# Altium footprint library parts.PcbLib: 3 footprints
Each footprint in its own frame and in the unit in brackets; x right, y up, seen from the top. Pads: shape width x height; smd on the part's side, far side on the other; paste and mask are expansions set on the pad; w line width, h text height; cw(c..) or ccw(c..) is an arc to the next point about the centre after c.
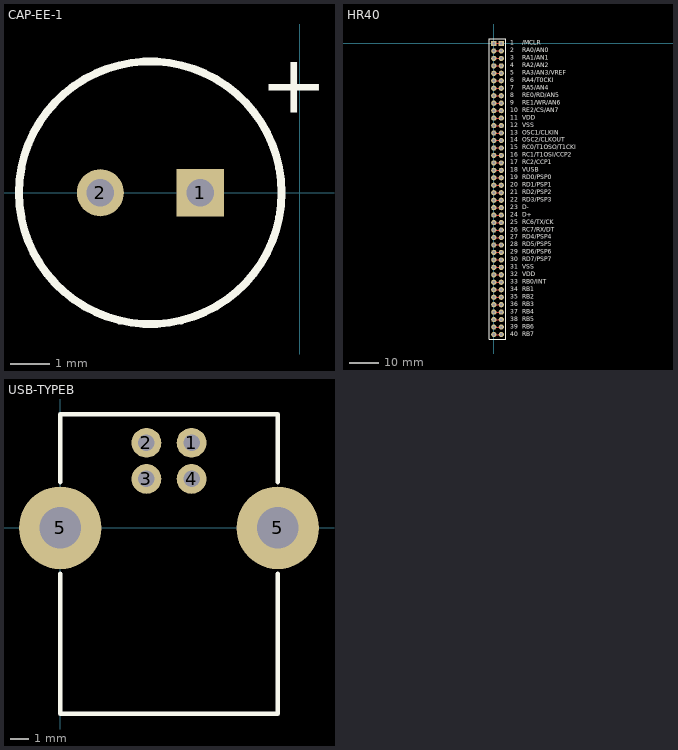
[diagram p0: the footprints below, top view; thin cyan lines are the x and y axes]

## CAP-EE-1 [mm]
pads (2):
  rect 1.2x1.2 hole 0.7: 1(-2.54,0)
  round 1.2 hole 0.7: 2(-5.08,0)
Top Overlay:
  circle w0.2: c-3.81,0 r3.341
  text "+" at -1.016,2.032 h1.5

## HR40 [mil]
pads (80):
  rect 70x70 hole 35: 1(0,0) 1(100,0)
  round 70 hole 35: 2(0,-100) 2(100,-100) 3(0,-200) 3(100,-200) 4(0,-300) 4(100,-300) 5(0,-400) 5(100,-400) 6(0,-500) 6(100,-500) 7(0,-600) 7(100,-600) 8(0,-700) 8(100,-700) 9(0,-800) 9(100,-800) 10(0,-900) 10(100,-900) 11(0,-1000) 11(100,-1000) 12(0,-1100) 12(100,-1100) 13(0,-1200) 13(100,-1200) 14(0,-1300) 14(100,-1300) 15(0,-1400) 15(100,-1400) 16(0,-1500) 16(100,-1500) 17(0,-1600) 17(100,-1600) 18(0,-1700) 18(100,-1700) 19(0,-1800) 19(100,-1800) 20(0,-1900) 20(100,-1900) 21(0,-2000) 21(100,-2000) 22(0,-2100) 22(100,-2100) 23(0,-2200) 23(100,-2200) 24(0,-2300) 24(100,-2300) 25(0,-2400) 25(100,-2400) 26(0,-2500) 26(100,-2500) 27(0,-2600) 27(100,-2600) 28(0,-2700) 28(100,-2700) 29(0,-2800) 29(100,-2800) 30(0,-2900) 30(100,-2900) 31(0,-3000) 31(100,-3000) 32(0,-3100) 32(100,-3100) 33(0,-3200) 33(100,-3200) 34(0,-3300) 34(100,-3300) 35(0,-3400) 35(100,-3400) 36(0,-3500) 36(100,-3500) 37(0,-3600) 37(100,-3600) 38(0,-3700) 38(100,-3700) 39(0,-3800) 39(100,-3800) 40(0,-3900) 40(100,-3900)
Top Layer:
  lines w10: -20,-1900 80,-1900 ; 0,-1400 100,-1400 ; 0,-1200 100,-1200 ; 0,-1000 100,-1000 ; 0,-900 100,-900 ; 0,-800 100,-800 ; 0,-700 100,-700 ; 0,-600 100,-600 ; 0,-500 100,-500 ; 0,-400 100,-400 ; 0,-300 100,-300 ; 0,-200 100,-200 ; 0,-100 100,-100 ; 0,0 100,0 ; 20,-1900 120,-1900 ; 20,-1200 120,-1200 ; 0,-3000 100,-3000 ; 0,-3000 100,-3000 ; 0,-3000 100,-3000 ; 0,-2900 100,-2900 ; 0,-2900 100,-2900 ; 0,-2900 100,-2900 ; 0,-2900 100,-2900 ; 0,-2800 100,-2800 ; 0,-2800 100,-2800 ; 0,-2800 100,-2800 ; 0,-2800 100,-2800 ; 0,-2700 100,-2700 ; 0,-2700 100,-2700 ; 0,-2700 100,-2700 ; 0,-2700 100,-2700 ; 0,-2600 100,-2600 ; 0,-2600 100,-2600 ; 0,-2600 100,-2600 ; 0,-2600 100,-2600 ; 0,-2500 100,-2500 ; 0,-2500 100,-2500 ; 0,-2500 100,-2500 ; 0,-2500 100,-2500 ; 0,-2500 100,-2500 ; 0,-2400 100,-2400 ; 0,-2400 100,-2400 ; 0,-2400 100,-2400 ; 0,-2300 100,-2300 ; 0,-2300 100,-2300 ; 0,-2300 100,-2300 ; 0,-2200 100,-2200 ; 0,-2200 100,-2200 ; 0,-2200 100,-2200 ; 0,-2200 100,-2200 ; 0,-2100 100,-2100 ; 0,-2100 100,-2100 ; 0,-2100 100,-2100 ; 0,-2100 100,-2100 ; 0,-2000 100,-2000 ; 0,-2000 100,-2000 ; 0,-2000 100,-2000 ; 0,-2000 100,-2000 ; 0,-1900 100,-1900 ; 0,-1900 100,-1900 ; 0,-1900 100,-1900 ; 0,-1800 100,-1800 ; 0,-1800 100,-1800 ; 0,-1800 100,-1800 ; 0,-1800 100,-1800 ; 0,-1700 100,-1700 ; 0,-1700 100,-1700 ; 0,-1700 100,-1700 ; 0,-1700 100,-1700 ; 0,-1700 100,-1700 ; 0,-1600 100,-1600 ; 0,-1600 100,-1600 ; 0,-1600 100,-1600 ; 0,-1600 100,-1600 ; 0,-1600 100,-1600 ; 0,-3900 100,-3900 0,-3900 ; 0,-3800 100,-3800 0,-3800 ; 0,-3700 100,-3700 0,-3700 ; 0,-3600 100,-3600 0,-3600 ; 0,-3500 100,-3500 0,-3500 ; 0,-3400 100,-3400 0,-3400 ; 0,-3300 100,-3300 0,-3300 ; 0,-3200 100,-3200 0,-3200 ; 0,-3100 100,-3100 0,-3100 ; 0,-1500 100,-1500 0,-1500 ; 0,-1300 100,-1300 0,-1300 ; 0,-1100 100,-1100 0,-1100
Top Overlay:
  lines w10: -60,-3960 160,-3960 160,60 140,60 -60,60 -60,-3960
  text "RC1/T1OSI/CCP2" at 380,-1520 h60
  text "/MCLR" at 380,-20 h60
  text "RA0/AN0" at 380,-120 h60
  text "RA1/AN1" at 380,-220 h60
  text "RA2/AN2" at 380,-320 h60
  text "RA3/AN3/VREF" at 380,-420 h60
  text "RA4/T0CKI" at 380,-520 h60
  text "RA5/AN4" at 380,-620 h60
  text "RE0/RD/AN5" at 380,-720 h60
  text "RE1/WR/AN6" at 380,-820 h60
  text "RE2/CS/AN7" at 380,-920 h60
  text "VDD" at 380,-1020 h60
  text "VSS" at 380,-1120 h60
  text "OSC1/CLKIN" at 380,-1220 h60
  text "OSC2/CLKOUT" at 380,-1320 h60
  text "RC0/T1OSO/T1CKI" at 380,-1420 h60
  text "RC2/CCP1" at 380,-1620 h60
  text "VUSB" at 380,-1720 h60
  text "RD0/PSP0" at 380,-1820 h60
  text "RD1/PSP1" at 380,-1920 h60
  text "RD2/PSP2" at 380,-2020 h60
  text "RD3/PSP3" at 380,-2120 h60
  text "D-" at 380,-2220 h60
  text "D+" at 380,-2320 h60
  text "RC6/TX/CK" at 380,-2420 h60
  text "RC7/RX/DT" at 380,-2520 h60
  text "RD4/PSP4" at 380,-2620 h60
  text "RD5/PSP5" at 380,-2720 h60
  text "RD6/PSP6" at 380,-2820 h60
  text "RD7/PSP7" at 380,-2920 h60
  text "VSS" at 380,-3020 h60
  text "VDD" at 380,-3120 h60
  text "RB0/INT" at 380,-3220 h60
  text "RB1" at 380,-3320 h60
  text "RB2" at 380,-3420 h60
  text "RB4" at 380,-3620 h60
  text "RB5" at 380,-3720 h60
  text "RB6" at 380,-3820 h60
  text "RB7" at 380,-3920 h60
  text "RB3" at 380,-3520 h60
  text "1" at 220,-20 h60
  text "2" at 220,-120 h60
  text "3" at 220,-220 h60
  text "4" at 220,-320 h60
  text "5" at 220,-420 h60
  text "6" at 220,-520 h60
  text "7" at 220,-620 h60
  text "8" at 220,-720 h60
  text "9" at 220,-820 h60
  text "10" at 220,-920 h60
  text "11" at 220,-1020 h60
  text "12" at 220,-1120 h60
  text "13" at 220,-1220 h60
  text "14" at 220,-1320 h60
  text "16" at 220,-1520 h60
  text "15" at 220,-1420 h60
  text "17" at 220,-1620 h60
  text "18" at 220,-1720 h60
  text "19" at 220,-1820 h60
  text "20" at 220,-1920 h60
  text "21" at 220,-2020 h60
  text "22" at 220,-2120 h60
  text "23" at 220,-2220 h60
  text "24" at 220,-2320 h60
  text "25" at 220,-2420 h60
  text "26" at 220,-2520 h60
  text "27" at 220,-2620 h60
  text "28" at 220,-2720 h60
  text "29" at 220,-2820 h60
  text "30" at 220,-2920 h60
  text "31" at 220,-3020 h60
  text "32" at 220,-3120 h60
  text "33" at 220,-3220 h60
  text "34" at 220,-3320 h60
  text "35" at 220,-3420 h60
  text "37" at 220,-3620 h60
  text "38" at 220,-3720 h60
  text "39" at 220,-3820 h60
  text "40" at 220,-3920 h60
  text "36" at 220,-3520 h60

## USB-TYPEB [mm]
pads (6):
  round 1.651 hole 0.92: 1(7.27,4.71) 2(4.77,4.71) 3(4.77,2.71) 4(7.27,2.71)
  round 4.572 hole 2.3: 5(0,0) 5(12.04,0)
Top Overlay:
  lines w0.254: 0,-2.54 0,-10.3 12.04,-10.3 12.04,-2.54 ; 0,2.54 0,6.3 12.04,6.3 12.04,2.54